# Altium footprint library TC264_主板_V2.6.PcbLib: 33 footprints (part 2 of 3)
Each footprint in its own frame and in the unit in brackets; x right, y up, seen from the top. Pads: shape width x height; smd on the part's side, far side on the other; paste and mask are expansions set on the pad; w line width, h text height; cw(c..) or ccw(c..) is an arc to the next point about the centre after c.
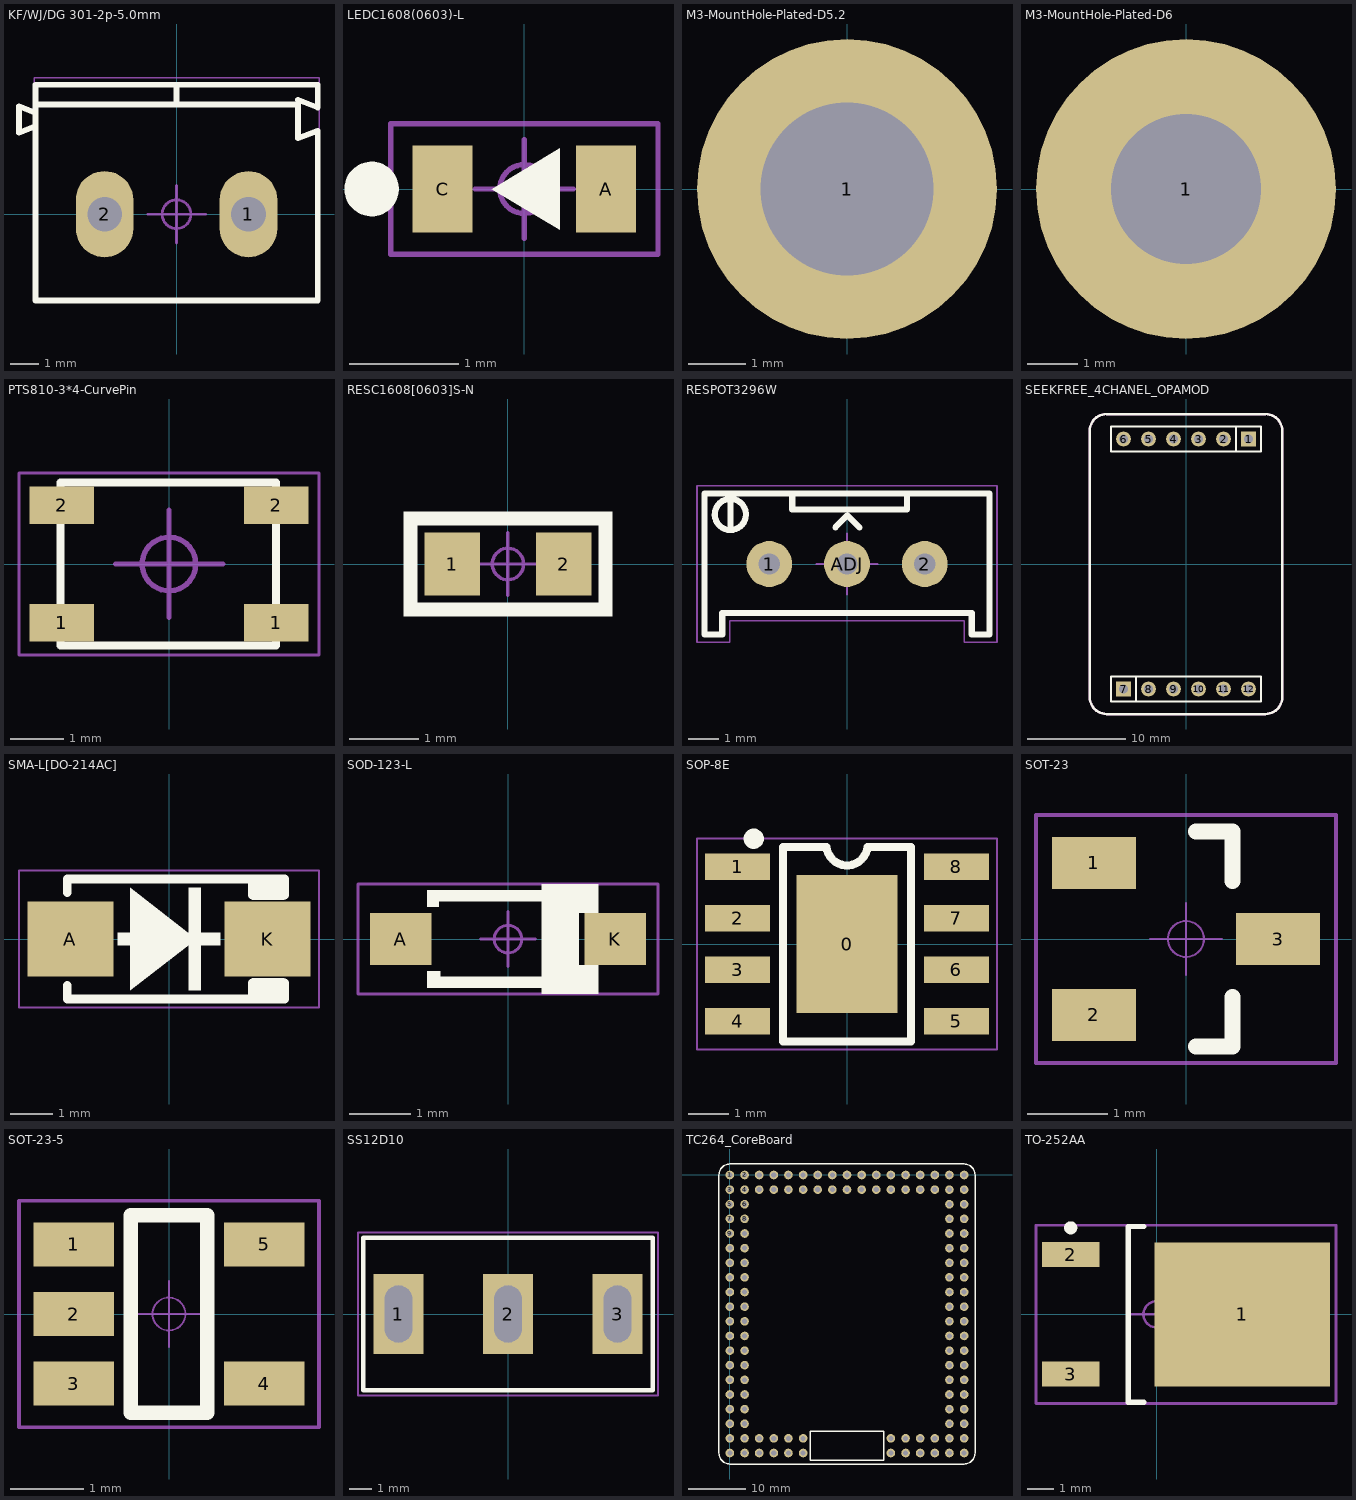
[diagram p1: the footprints below, top view; thin cyan lines are the x and y axes]

## KF/WJ/DG 301-2p-5.0mm [mm] "2P 5mm间距 接线端子"
pads (2):
  oval 2x3 hole 1.2: 1(2.5,0) 2(-2.5,0)
Top Overlay:
  lines w0.2: -4.905,3.056 -5.475,2.833 -5.475,3.753 -4.903,3.53 ; -4.905,3.095 -4.905,3.81 -4.905,4.5 ; 4.219,3.81 4.219,2.636 4.905,2.904 4.905,-2.997 ; 4.219,3.976 4.905,3.708 4.905,4.5
  lines w0.203: -4.905,3.056 -4.905,-2.997 4.905,-2.997 ; -4.905,3.81 4.219,3.81 ; -4.905,4.5 4.905,4.5 ; 0,3.81 0,4.445
Top Designator:
  text ".Designator" at -2.251,-0.226 h1
Top Component Outline:
  lines w0.05: -4.95,-2.971 -4.95,4.75 4.95,4.75 4.95,-2.971 -4.95,-2.971
Top Component Center:
  circle w0.1: c0,0 r0.5
  lines w0.1: -1,0 1,0 ; 0,-1 0,1
3D body "Terminal-Screw-3A-2way.step": height 10.1, standoff -2.9, extent -5.6,-3 5,4.6

## LEDC1608(0603)-L [mm] "LED,Chip;1.60mm L X 0.80mm W X 0.80mm H"
height 0.8
pads (2):
  rect 0.55x0.8 smd: A(0.75,0) C(-0.75,0)
Top Overlay:
  circle w0.25: c-1.4,0 r0.125
  region: -0.3,0 0.325,0.375 0.325,-0.375
Top Designator:
  text ".Designator" at -2.451,-0.226 h1
Top Component Outline:
  lines w0.05: -1.225,-0.6 -1.225,0.6 1.225,0.6 1.225,-0.6 -1.225,-0.6
Top Component Center:
  circle w0.05: c0,0 r0.225
  lines w0.05: -0.45,0 0.45,0 ; 0,-0.45 0,0.45
3D body: height 0.64, standoff 0, extent -0.559,-0.4 0.559,0.4
3D body "0603 (1608) LED Base (Separate Lens).STEP": height 0.64, standoff 0, extent -0.8,-0.4 0.8,0.4

## M3-MountHole-Plated-D5.2 [mm] "M3-MountHole"
pads (1):
  round 5.2 hole 3: 1(0,0)

## M3-MountHole-Plated-D6 [mm] "M3-MountHole 外径6mm"
pads (1):
  round 6 hole 3: 1(0,0)

## PTS810-3*4-CurvePin [mm] "3*4 白色 汽车遥控器贴片按键 包脚"
height 4.32
pads (4):
  rect 1.2x0.7 smd: 1(-2,-1.1) 1(2,-1.1) 2(-2,1.1) 2(2,1.1)
Top Overlay:
  lines w0.152: -2.025,-1.524 2,-1.524 2,1.524 -2.025,1.524 -2.025,-1.524
Top Designator:
  text ".Designator" at -2.251,-0.226 h1
Top Component Outline:
  lines w0.05: -2.8,-1.7 -2.8,1.7 2.8,1.7 2.8,-1.7 -2.8,-1.7
Top Component Center:
  circle w0.1: c0,0 r0.5
  lines w0.1: -1,0 1,0 ; 0,-1 0,1
3D body "User Library-PTS810.STEP": height 2.5, standoff 0, extent -2.301,-1.6 2.299,1.6

## RESC1608[0603]S-N [mm] "0603贴片电阻 有丝印 2脚 1.60x0.80mm IPC中密度"
height 0.6
pads (2):
  rect 0.8x0.9 smd: 1(-0.8,0) 2(0.8,0)
Top Overlay:
  region: 1.5,-0.75 1.5,0.75 1.3,0.75 1.3,-0.75
  region: -1.5,0.75 -1.5,-0.75 -1.3,-0.75 -1.3,0.75
  rectangle: -1.5,0.55 1.5,0.75
  rectangle: -1.5,-0.75 1.5,-0.55
Top Designator:
  text ".Designator" at 2.251,0.226 h1
Top Component Outline:
  rectangle: -1.45,-0.7 -1.4,0.7
  region: 1.45,0.65 1.45,0.7 -1.45,0.7 -1.45,0.65
  region: 1.45,0.7 1.4,0.7 1.4,-0.7 1.45,-0.7
  region: -1.45,-0.65 -1.45,-0.7 1.45,-0.7 1.45,-0.65
Top Component Center:
  circle w0.05: c0,0 r0.225
  lines w0.05: -0.45,0 0.45,0 ; 0,-0.45 0,0.45
3D body "R0603.STEP": height 0.45, standoff 0, extent -0.8,-0.4 0.8,0.4

## RESPOT3296W [mm] "3296W 精密可调电阻 顶调"
pads (3):
  round 1.5 hole 0.7: 1(-2.54,0) 2(2.54,0) ADJ(0,0)
Top Overlay:
  lines w0.2: -3.8,1.125 -3.8,2.125 ; -3.302,1.651 ccw(c-3.81,1.618) -3.301,1.608 ; -1.79,2.286 -1.79,1.778 1.96,1.778 1.96,2.286 ; -0.381,1.194 0.013,1.587 0.406,1.194 ; -4.65,-2.3 -4.075,-2.3 -4.075,-1.602 4.075,-1.602 4.075,-2.3 4.65,-2.3 4.65,2.3 -4.65,2.3 -4.65,-2.3
Top Designator:
  text ".Designator" at 2.161,0.126 h1
Top Component Outline:
  lines w0.05: -4.9,-2.55 -3.825,-2.55 -3.825,-1.85 -3.16,-1.85 2.8,-1.85 3.825,-1.85 3.825,-2.55 4.9,-2.55 4.9,2.55 -4.9,2.55 -4.9,-2.55
Top Component Center:
  circle w0.05: c0,0 r0.5
  lines w0.05: -1,0 1,0 ; 0,-1 0,1
3D body "3296.STEP": height 3.1, standoff -11.9, extent -4.75,-2.4 4.75,2.4

## SEEKFREE_4CHANEL_OPAMOD [mm]
pads (12):
  rect 1.5x1.5 hole 0.9: 1(6.35,12.7) 7(-6.35,-12.7)
  round 1.5 hole 0.9: 2(3.81,12.7) 3(1.27,12.7) 4(-1.27,12.7) 5(-3.81,12.7) 6(-6.35,12.7) 8(-3.81,-12.7) 9(-1.27,-12.7) 10(1.27,-12.7) 11(3.81,-12.7) 12(6.35,-12.7)
Top Overlay:
  lines w0.2: -5.1,-13.95 -5.1,-11.45 ; 5.1,11.45 5.1,13.95 ; -7.62,-13.97 -7.62,-11.43 7.62,-11.43 7.62,-13.97 -7.62,-13.97 ; -7.62,11.43 -7.62,13.97 7.62,13.97 7.62,11.43 -7.62,11.43
Top Overlay keep-out:
  lines w0.254: -9.779,-13.524 ccw(c-8.063,-13.524) -8.063,-15.24 8.063,-15.24 ccw(c8.063,-13.524) 9.779,-13.524 9.779,13.524 ccw(c8.063,13.524) 8.063,15.24 -8.063,15.24 ccw(c-8.063,13.524) -9.779,13.524 -9.779,-13.524
Top Designator:
  text ".Designator" at -2.251,12.474 h1
3D body "1001-6.STEP": height 8.54, standoff -3, extent -7.62,-13.97 7.62,-11.43
3D body "1001-6.STEP": height 8.54, standoff -3, extent -7.62,11.43 7.62,13.97
3D body "Female-Header-2.54-Single-6.stp": height 8.5, standoff -3.2, extent -7.747,-13.975 7.743,-11.475
3D body "Female-Header-2.54-Single-6.stp": height 8.5, standoff -3.2, extent -7.743,11.475 7.747,13.975

## SMA-L[DO-214AC] [mm] "SMA 二极管 贴片 IPC高密度"
height 2.31
pads (2):
  rect 2x1.75 smd: A(-2.3,0) K(2.3,0)
Top Overlay:
  rectangle: -1.2,-0.149 1.2,0.151
  rectangle: 0.451,-1.2 0.751,1.2
  rectangle: 1.941,0.914 2.7,1.395
  rectangle: 1.941,-1.4 2.7,-0.914
  region: -0.902,1.2 -0.902,-1.2 0.635,0
  lines w0.2: -2.375,-1.075 -2.375,-1.4 2.7,-1.4 2.7,-1.016 ; -2.375,1.075 -2.375,1.4 2.7,1.4 2.7,1.016 ; 1.941,-1.395 1.941,-1.016 ; 1.941,1.016 1.941,1.395
Top Designator:
  text ".Designator" at -2.251,-0.226 h1
Top Component Outline:
  lines w0.05: -3.5,-1.6 -3.5,1.6 3.5,1.6 3.5,-1.6 -3.5,-1.6
Top Component Center:
  circle w0.05: c0,0 r0.225
  lines w0.05: -0.45,0 0.45,0 ; 0,-0.45 0,0.45
3D body "SMA(DO-214AC).STEP": height 2.3, standoff 0, extent -2.905,-1.46 2.905,1.46

## SOD-123-L [mm] "SOD Diode;2.70mm W X 1.60mm L X 1.35mm H body"
height 1.35
pads (2):
  rect 1x0.85 smd: A(-1.75,0) K(1.75,0)
Top Overlay:
  region: -1.125,0.8 -1.325,0.8 -1.325,0.525 -1.125,0.525
  region: -1.1,-0.525 -1.325,-0.525 -1.325,-0.8 -1.1,-0.8
  rectangle: 1.15,-0.8 1.475,-0.425
  rectangle: 1.15,0.425 1.475,0.8
  rectangle: -1.143,-0.8 0.584,-0.612
  rectangle: 0.55,0.7 1.475,0.903
  rectangle: -1.143,0.612 0.584,0.8
  rectangle: 0.55,-0.897 1.475,-0.694
  rectangle: 0.547,-0.8 1.157,0.8
Top Designator:
  text ".Designator" at 2.251,0.226 h1
Top Component Outline:
  lines w0.05: -2.45,-0.9 2.45,-0.9 2.45,0.9 -2.45,0.9 -2.45,-0.9
Top Component Center:
  circle w0.05: c0,0 r0.225
  lines w0.05: -0.45,0 0.45,0 ; 0,-0.45 0,0.45
3D body "SOD-123.STEP": height 1.2, standoff 0, extent -1.85,-0.8 1.85,0.8

## SOP-8E [mm] "SOIC,1.27mm pitch;8 pin,3.90mm W X 4.88mm L X 1.73mm H body"
pads (9):
  rect 2.5x3.4 smd: 0(0,0)
  rect 1.6x0.65 smd: 1(-2.7,1.905) 2(-2.7,0.635) 3(-2.7,-0.635) 4(-2.7,-1.905) 5(2.7,-1.905) 6(2.7,-0.635) 7(2.7,0.635) 8(2.7,1.905)
Top Overlay:
  circle w0.25: c-2.3,2.6 r0.125
  lines w0.2: -0.508,2.4 -1.575,2.4 -1.575,-2.4 1.575,-2.4 1.575,2.4 0.508,2.4 ; -0.505,2.399 ccw(c0,2.45) 0.505,2.399
Top Designator:
  text ".Designator" at -2.251,-0.114 h1
Top Component Outline:
  lines w0.05: -3.7,-2.6 3.7,-2.6 3.7,2.6 -3.7,2.6 -3.7,-2.6
Top Component Center:
  circle w0.05: c0,0 r0.35
  lines w0.05: -0.5,0 0.5,0 ; 0,-0.5 0,0.5
3D body "SOIC8.STEP": height 1.75, standoff 0, extent -3.105,-2.45 3.105,2.45

## SOT-23 [mm] "SOT23, 3-Leads, Body 2.90x2.40mm, Pitch 0.95mm, IPC Medium Density"
height 1.1
pads (3):
  rect 1.05x0.65 smd: 1(-1.15,0.95) 2(-1.15,-0.95) 3(1.15,0)
Top Overlay:
  lines w0.2: 0.127,-1.346 0.584,-1.346 0.584,-0.725 ; 0.127,1.346 0.584,1.346 0.584,0.725
Top Designator:
  text ".Designator" at -0.226,2.251 h1
Top Component Outline:
  lines w0.05: -1.875,-1.55 1.875,-1.55 1.875,1.55 -1.875,1.55 -1.875,-1.55
Top Component Center:
  circle w0.025: c0,0 r0.225
  lines w0.025: -0.45,0 0.45,0 ; 0,-0.45 0,0.45
3D body "SOT-23-3P.STEP": height 1.2, standoff 0, extent -1.4,-1.45 1.4,1.45

## SOT-23-5 [mm] "SOT23, 5-Leads, Body 2.92x2.79mm, Pitch 0.95mm, IPC Medium Density"
height 1.42
pads (5):
  rect 1.1x0.6 smd: 1(-1.3,0.95) 2(-1.3,0) 3(-1.3,-0.95) 4(1.3,-0.95) 5(1.3,0.95)
Top Overlay:
  lines w0.2: -0.525,-1.35 -0.525,1.35 0.525,1.35 0.525,-1.35 -0.525,-1.35
Top Designator:
  text ".Designator" at -2.251,-0.226 h1
Top Component Outline:
  lines w0.05: -2.05,-1.55 -2.05,1.55 2.05,1.55 2.05,-1.55 -2.05,-1.55
Top Component Center:
  circle w0.025: c0,0 r0.225
  lines w0.025: -0.45,0 0.45,0 ; 0,-0.45 0,0.45
3D body "SOT-5.stp": height 1.08, standoff -0.01, extent -1.423,-1.461 1.422,1.46

## SS12D10 [mm] "拨动开关，直脚，脚距4.8"
pads (3):
  rect 2.2x3.5 hole 1.2 slot 2.5 at 90 deg mask+0.07: 1(-4.8,0) 2(0,0) 3(4.8,0)
Top Overlay:
  lines w0.2: -6.35,-3.35 6.35,-3.35 6.35,3.35 -6.35,3.35 -6.35,-3.3
Top Designator:
  text ".Designator" at -2.251,-0.138 h1
Top Component Outline:
  lines w0.1: -6.575,-3.575 -6.575,3.575 6.575,3.575 6.575,-3.575 -6.575,-3.575
Top Component Center:
  circle w0.1: c0,0 r0.5
  lines w0.1: -1,0 1,0 ; 0,-1 0,1
3D body "ms-13aap1.stp": height 12.5, standoff -5.4, extent -6.4,-3.3 6.35,3.8

## TC264_CoreBoard [mm] "逐飞科技TC264核心板"
pads (122):
  round 1.5 hole 0.9: 1(0,0) 2(2.54,0) 3(0,-2.54) 4(2.54,-2.54) 5(0,-5.08) 6(2.54,-5.08) 7(0,-7.62) 8(2.54,-7.62) 9(0,-10.16) 10(2.54,-10.16) 11(0,-12.7) 12(2.54,-12.7) 13(0,-15.24) 14(2.54,-15.24) 15(0,-17.78) 16(2.54,-17.78) 17(0,-20.32) 18(2.54,-20.32) 19(0,-22.86) 20(2.54,-22.86) 21(0,-25.4) 22(2.54,-25.4) 23(0,-27.94) 24(2.54,-27.94) 25(0,-30.48) 26(2.54,-30.48) 27(0,-33.02) 28(2.54,-33.02) 29(0,-35.56) 30(2.54,-35.56) 31(0,-38.1) 32(2.54,-38.1) 33(0,-40.64) 34(2.54,-40.64) 35(0,-43.18) 36(2.54,-43.18) 37(0,-45.72) 38(2.54,-45.72) 39(0,-48.26) 40(2.54,-48.26) 41(5.08,-48.26) 42(5.08,-45.72) 43(7.62,-48.26) 44(7.62,-45.72) 45(10.16,-48.26) 46(10.16,-45.72) 47(12.7,-48.26) 48(12.7,-45.72) 49(27.94,-45.72) 50(27.94,-48.26) 51(30.48,-45.72) 52(30.48,-48.26) 53(33.02,-45.72) 54(33.02,-48.26) 55(35.56,-45.72) 56(35.56,-48.26) 57(38.1,-48.26) 58(40.64,-48.26) 59(38.1,-45.72) 60(40.64,-45.72) 61(38.1,-43.18) 62(40.64,-43.18) 63(38.1,-40.64) 64(40.64,-40.64) 65(38.1,-38.1) 66(40.64,-38.1) 67(38.1,-35.56) 68(40.64,-35.56) 69(38.1,-33.02) 70(40.64,-33.02) 71(38.1,-30.48) 72(40.64,-30.48) 73(38.1,-27.94) 74(40.64,-27.94) 75(38.1,-25.4) 76(40.64,-25.4) 77(38.1,-22.86) 78(40.64,-22.86) 79(38.1,-20.32) 80(40.64,-20.32) 81(38.1,-17.78) 82(40.64,-17.78) 83(38.1,-15.24) 84(40.64,-15.24) 85(38.1,-12.7) 86(40.64,-12.7) 87(38.1,-10.16) 88(40.64,-10.16) 89(38.1,-7.62) 90(40.64,-7.62) 91(38.1,-5.08) 92(40.64,-5.08) 93(38.1,-2.54) 94(40.64,-2.54) 95(38.1,0) 96(40.64,0) 97(35.56,-2.54) 98(35.56,0) 99(33.02,-2.54) 100(33.02,0) 101(30.48,-2.54) 102(30.48,0) 103(27.94,-2.54) 104(27.94,0) 105(25.4,-2.54) 106(25.4,0) 107(22.86,-2.54) 108(22.86,0) 109(20.32,-2.54) 110(20.32,0) 111(17.78,-2.54) 112(17.78,0) 113(15.24,-2.54) 114(15.24,0) 115(12.7,-2.54) 116(12.7,0) 117(10.16,-2.54) 118(10.16,0) 119(7.62,-2.54) 120(7.62,0) 121(5.08,-2.54) 122(5.08,0)
Top Overlay:
  lines w0.254: -1.905,-48.26 ccw(c0,-48.26) 0,-50.165 40.64,-50.165 ccw(c40.64,-48.26) 42.545,-48.26 42.545,0 ccw(c40.64,0) 40.64,1.905 0,1.905 ccw(c0,0) -1.905,0 -1.905,-48.26 ; 13.97,-49.53 13.97,-44.45 26.67,-44.45 26.67,-49.53 13.97,-49.53

## TO-252AA [mm] "D-PAK, 4-Leads, Body 6.1x6.5mm, Pitch 2.28mm, Lead Span 9.8mm, IPC Low Density"
height 2.38
pads (3):
  rect 6.7x5.5 smd: 1(3.275,0)
  rect 2.2x0.95 smd: 2(-3.275,2.28) 3(-3.275,-2.28)
Top Overlay:
  circle w0.25: c-3.275,3.305 r0.125
  lines w0.2: -0.475,-3.35 -1.075,-3.35 -1.075,3.35 -0.475,3.35
Top Designator:
  text ".Designator" at -1.126,-0.174 h1
Top Component Outline:
  lines w0.1: -4.6,-3.4 6.85,-3.4 6.85,3.4 -4.6,3.4 -4.6,-3.4
Top Component Center:
  circle w0.1: c0,0 r0.5
  lines w0.1: -1,0 1,0 ; 0,-1 0,1
3D body "User Library-DPAK-1.STEP": height 2.39, standoff -0.02, extent -3.775,-3.27 6.163,3.27